# Altium schematic symbol library SCH - DRIVER - LED - TI LM3409_DGQ_10.SchLib: 1 symbol
Pins are listed as number, name and electrical type; pins without a type are passive.

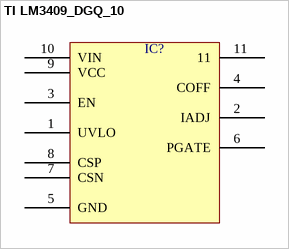
[diagram p0: symbol TI LM3409_DGQ_10]

## TI LM3409_DGQ_10
designator IC?  (value not drawn)
pins: 1 UVLO, 2 IADJ, 3 EN, 4 COFF, 5 GND, 6 PGATE, 7 CSN, 8 CSP, 9 VCC, 10 VIN, 11